# Altium footprint library WeAct-ESP32C6-A.PcbLib: 1 footprints
Each footprint in its own frame and in the unit in brackets; x right, y up, seen from the top. Pads: shape width x height; smd on the part's side, far side on the other; paste and mask are expansions set on the pad; w line width, h text height; cw(c..) or ccw(c..) is an arc to the next point about the centre after c.
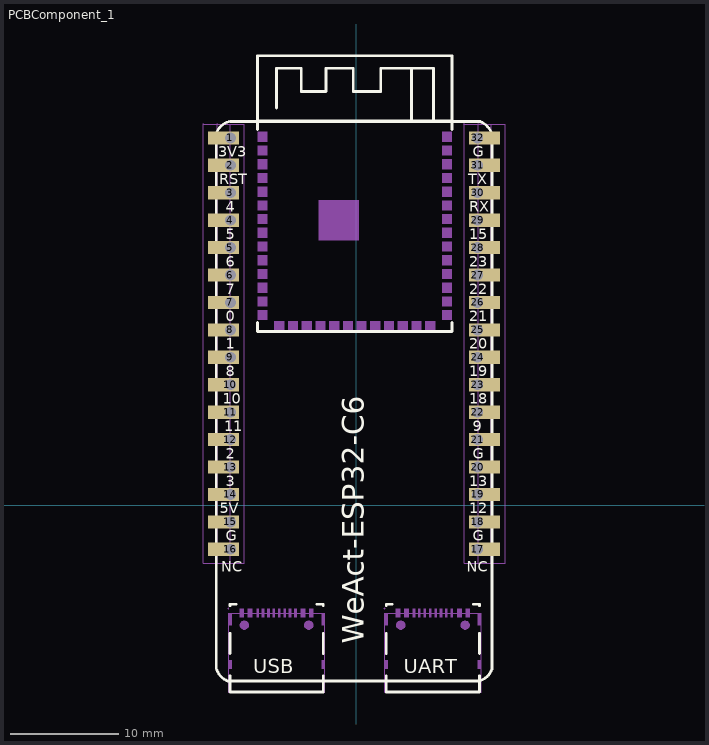
[diagram p0: the footprint, top view; thin cyan lines are the x and y axes]

## PCBComponent_1 [mil]
pads (32):
  rect 113x48 hole 39.37 copper offset -25,0 paste+0 mask+2: 1(-458,1340) 2(-458,1240) 3(-458,1140) 4(-458,1040) 5(-458,940) 6(-458,840) 7(-458,740) 8(-458,640) 9(-458,540) 10(-458,440) 11(-458,340) 12(-458,240) 13(-458,140) 14(-458,40) 15(-458,-60) 16(-458,-160)
  rect 113x48 hole 39.37 copper offset 25,0 paste+0 mask+2: 17(443,-160) 18(443,-60) 19(443,40) 20(443,140) 21(443,240) 22(443,340) 23(443,440) 24(443,540) 25(443,640) 26(443,740) 27(443,840) 28(443,940) 29(443,1040) 30(443,1140) 31(443,1240) 32(443,1340)
Top Overlay:
  lines w10: -467.75,-640 cw(c-442.55,-574.73) -510,-593.33 -510,1357.12 cw(c-444.73,1331.92) -463.33,1399.37 ; -462.75,-640 448.33,-640 ccw(c429.73,-572.55) 495,-597.75 495,1352.7 ccw(c427.55,1334.1) 452.75,1399.37 -458.33,1399.37 ; -460,-620.89 -460,-680 -120,-680 -120,-620.89 ; -460,-539.7 -460,-466.16 ; -460,-365.29 -460,-360 -437.88,-360 ; -359.33,667.12 -359.33,633.74 310.94,633.74 ; -359.33,1370.76 -359.33,1639.22 349.33,1639.22 ; -359.33,1401.44 350,1401.44 ; -290,1448.74 -290,1593.74 -200,1593.74 -200,1508.74 -110,1508.74 -110,1593.74 -10,1593.74 -10,1508.74 90,1508.74 90,1593.74 202.29,1593.74 202.29,1401.44 ; -142.32,-360 -120,-360 -120,-365.29 ; -120,-539.7 -120,-466.16 ; 110,-620.89 110,-680 450,-680 450,-620.89 ; 110,-539.7 110,-466.16 ; 110,-365.29 110,-360 132.12,-360 ; 194.29,1593.74 282.29,1593.74 282.29,1401.44 ; 296.82,633.74 350,633.74 350,667.12 ; 350,1370.76 350,1638.74 ; 427.68,-360 450,-360 450,-365.29 ; 450,-539.7 450,-466.16
  text "UART" at 173.29,-612.24 h51.92
  text "USB" at -374.43,-612.24 h51.92
  text "NC" at -491.62,-241.68 h38.94
  text "G" at -475,-129.27 h39.22
  text "5V" at -496.62,-29.13 h38.94
  text "3" at -475,70.73 h39.22
  text "2" at -475,170.73 h39.22
  text "11" at -481.62,270.87 h38.94
  text "10" at -486.62,370.87 h38.94
  text "8" at -475,470.73 h39.22
  text "1" at -475,570.73 h39.22
  text "0" at -475,670.73 h39.22
  text "7" at -475,770.73 h39.22
  text "6" at -475,870.73 h39.22
  text "5" at -475,970.73 h39.22
  text "4" at -475,1070.73 h39.22
  text "RST" at -498.32,1170.87 h38.94
  text "3V3" at -503.32,1270.87 h38.94
  text "G" at 425,1270.73 h39.22
  text "TX" at 408.38,1170.87 h38.94
  text "RX" at 413.38,1070.87 h38.94
  text "15" at 413.38,970.87 h38.94
  text "23" at 413.38,870.87 h38.94
  text "22" at 413.38,770.87 h38.94
  text "21" at 413.38,670.87 h38.94
  text "20" at 413.38,570.87 h38.94
  text "19" at 413.38,470.87 h38.94
  text "18" at 413.38,370.87 h38.94
  text "9" at 425,270.73 h39.22
  text "G" at 425,170.73 h39.22
  text "13" at 413.38,70.87 h38.94
  text "12" at 413.38,-29.13 h38.94
  text "G" at 425,-129.27 h39.22
  text "NC" at 403.38,-241.68 h38.94
  text "WeAct-ESP32-C6" at 28.36,-504.27 h77.88
Mechanical 15:
  drawing of 175 lines, arcs and shapes, not listed